# Altium footprint library xgzpFoot.PcbLib: 1 footprints
Each footprint in its own frame and in the unit in brackets; x right, y up, seen from the top. Pads: shape width x height; smd on the part's side, far side on the other; paste and mask are expansions set on the pad; w line width, h text height; cw(c..) or ccw(c..) is an arc to the next point about the centre after c.
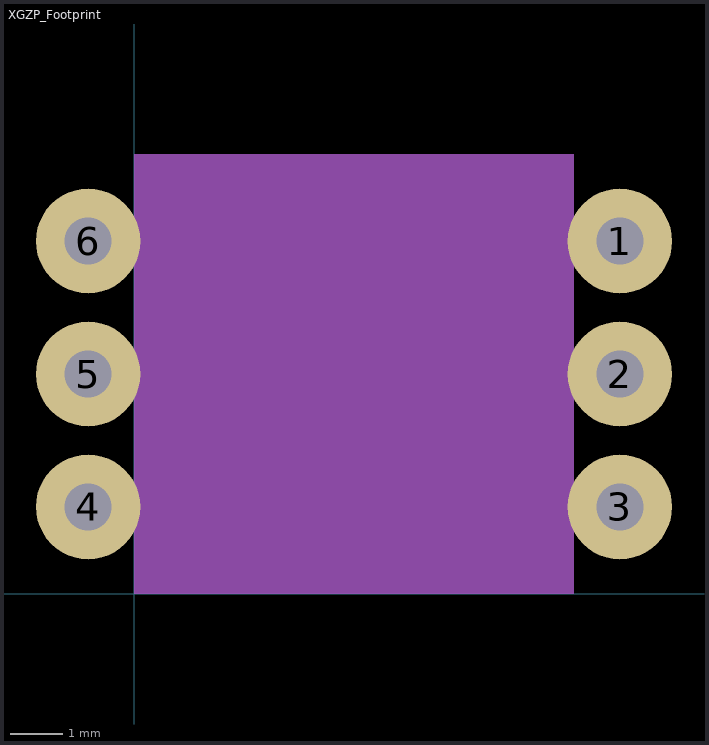
[diagram p0: the footprint, top view; thin cyan lines are the x and y axes]

## XGZP_Footprint [mm]
pads (6):
  round 2 hole 0.9: 1(9.28,6.74) 2(9.28,4.2) 3(9.28,1.66) 4(-0.88,1.66) 5(-0.88,4.2) 6(-0.88,6.74)
Mechanical 1:
  rectangle: 0,0 8.4,8.4
3D body: height 9.1, standoff 0, extent 0,0 8.4,8.4